# Altium footprint library DragonBoard_8074.PcbLib: 1 footprints
Each footprint in its own frame and in the unit in brackets; x right, y up, seen from the top. Pads: shape width x height; smd on the part's side, far side on the other; paste and mask are expansions set on the pad; w line width, h text height; cw(c..) or ccw(c..) is an arc to the next point about the centre after c.
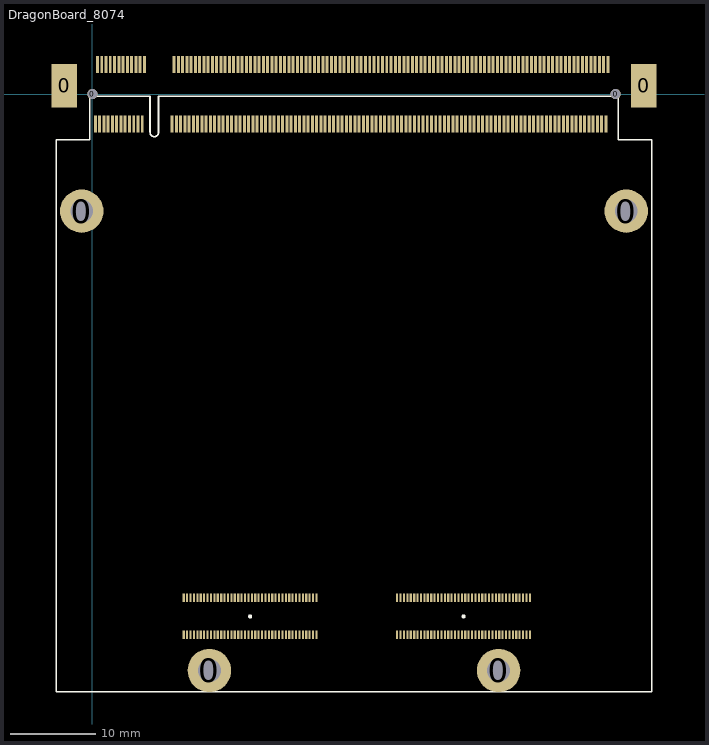
[diagram p0: the footprint, top view; thin cyan lines are the x and y axes]

## DragonBoard_8074 [mm]
pads (400):
  rect 3x5.15 smd: 0(-3.31,0.98) 0(64.81,0.98)
  round 5.1 hole 2.69: 0(-1.25,-13.75) 0(13.75,-67.75) 0(47.75,-67.75) 0(62.75,-13.75)
  round 1.2 hole 1.2: 0(0,0) 0(61.5,0)
  round 0.5 on Top Overlay: 0(18.54,-61.4) 0(43.625,-61.4)
  rect 0.35x2 smd: 1(0.36,-3.5) 2(0.6,3.5) 3(0.86,-3.5) 4(1.1,3.5) 5(1.36,-3.5) 6(1.6,3.5) 7(1.86,-3.5) 8(2.1,3.5) 9(2.36,-3.5) 10(2.6,3.5) 11(2.86,-3.5) 12(3.1,3.5) 13(3.36,-3.5) 14(3.6,3.5) 15(3.86,-3.5) 16(4.1,3.5) 17(4.36,-3.5) 18(4.6,3.5) 19(4.86,-3.5) 20(5.1,3.5) 21(5.36,-3.5) 22(5.6,3.5) 23(5.86,-3.5) 24(6.1,3.5) 25(9.36,-3.5) 26(9.6,3.5) 27(9.86,-3.5) 28(10.1,3.5) 29(10.36,-3.5) 30(10.6,3.5) 31(10.86,-3.5) 32(11.1,3.5) 33(11.36,-3.5) 34(11.6,3.5) 35(11.86,-3.5) 36(12.1,3.5) 37(12.36,-3.5) 38(12.6,3.5) 39(12.86,-3.5) 40(13.1,3.5) 41(13.36,-3.5) 42(13.6,3.5) 43(13.86,-3.5) 44(14.1,3.5) 45(14.36,-3.5) 46(14.6,3.5) 47(14.86,-3.5) 48(15.1,3.5) 49(15.36,-3.5) 50(15.6,3.5) 51(15.86,-3.5) 52(16.1,3.5) 53(16.36,-3.5) 54(16.6,3.5) 55(16.86,-3.5) 56(17.1,3.5) 57(17.36,-3.5) 58(17.6,3.5) 59(17.86,-3.5) 60(18.1,3.5) 61(18.36,-3.5) 62(18.6,3.5) 63(18.86,-3.5) 64(19.1,3.5) 65(19.36,-3.5) 66(19.6,3.5) 67(19.86,-3.5) 68(20.1,3.5) 69(20.36,-3.5) 70(20.6,3.5) 71(20.86,-3.5) 72(21.1,3.5) 73(21.36,-3.5) 74(21.6,3.5) 75(21.86,-3.5) 76(22.1,3.5) 77(22.36,-3.5) 78(22.6,3.5) 79(22.86,-3.5) 80(23.1,3.5) 81(23.36,-3.5) 82(23.6,3.5) 83(23.86,-3.5) 84(24.1,3.5) 85(24.36,-3.5) 86(24.6,3.5) 87(24.86,-3.5) 88(25.1,3.5) 89(25.36,-3.5) 90(25.6,3.5) 91(25.86,-3.5) 92(26.1,3.5) 93(26.36,-3.5) 94(26.6,3.5) 95(26.86,-3.5) 96(27.1,3.5) 97(27.36,-3.5) 98(27.6,3.5) 99(27.86,-3.5) 100(28.1,3.5) 101(28.36,-3.5) 102(28.6,3.5) 103(28.86,-3.5) 104(29.1,3.5) 105(29.36,-3.5) 106(29.6,3.5) 107(29.86,-3.5) 108(30.1,3.5) 109(30.36,-3.5) 110(30.6,3.5) 111(30.86,-3.5) 112(31.1,3.5) 113(31.36,-3.5) 114(31.6,3.5) 115(31.86,-3.5) 116(32.1,3.5) 117(32.36,-3.5) 118(32.6,3.5) 119(32.86,-3.5) 120(33.1,3.5) 121(33.36,-3.5) 122(33.6,3.5) 123(33.86,-3.5) 124(34.1,3.5) 125(34.36,-3.5) 126(34.6,3.5) 127(34.86,-3.5) 128(35.1,3.5) 129(35.36,-3.5) 130(35.6,3.5) 131(35.86,-3.5) 132(36.1,3.5) 133(36.36,-3.5) 134(36.6,3.5) 135(36.86,-3.5) 136(37.1,3.5) 137(37.36,-3.5) 138(37.6,3.5) 139(37.86,-3.5) 140(38.1,3.5) 141(38.36,-3.5) 142(38.6,3.5) 143(38.86,-3.5) 144(39.1,3.5) 145(39.36,-3.5) 146(39.6,3.5) 147(39.86,-3.5) 148(40.1,3.5) 149(40.36,-3.5) 150(40.6,3.5) 151(40.86,-3.5) 152(41.1,3.5) 153(41.36,-3.5) 154(41.6,3.5) 155(41.86,-3.5) 156(42.1,3.5) 157(42.36,-3.5) 158(42.6,3.5) 159(42.86,-3.5) 160(43.1,3.5) 161(43.36,-3.5) 162(43.6,3.5) 163(43.86,-3.5) 164(44.1,3.5) 165(44.36,-3.5) 166(44.6,3.5) 167(44.86,-3.5) 168(45.1,3.5) 169(45.36,-3.5) 170(45.6,3.5) 171(45.86,-3.5) 172(46.1,3.5) 173(46.36,-3.5) 174(46.6,3.5) 175(46.86,-3.5) 176(47.1,3.5) 177(47.36,-3.5) 178(47.6,3.5) 179(47.86,-3.5) 180(48.1,3.5) 181(48.36,-3.5) 182(48.6,3.5) 183(48.86,-3.5) 184(49.1,3.5) 185(49.36,-3.5) 186(49.6,3.5) 187(49.86,-3.5) 188(50.1,3.5) 189(50.36,-3.5) 190(50.6,3.5) 191(50.86,-3.5) 192(51.1,3.5) 193(51.36,-3.5) 194(51.6,3.5) 195(51.86,-3.5) 196(52.1,3.5) 197(52.36,-3.5) 198(52.6,3.5) 199(52.86,-3.5) 200(53.1,3.5) 201(53.36,-3.5) 202(53.6,3.5) 203(53.86,-3.5) 204(54.1,3.5) 205(54.36,-3.5) 206(54.6,3.5) 207(54.86,-3.5) 208(55.1,3.5) 209(55.36,-3.5) 210(55.6,3.5) 211(55.86,-3.5) 212(56.1,3.5) 213(56.36,-3.5) 214(56.6,3.5) 215(56.86,-3.5) 216(57.1,3.5) 217(57.36,-3.5) 218(57.6,3.5) 219(57.86,-3.5) 220(58.1,3.5) 221(58.36,-3.5) 222(58.6,3.5) 223(58.86,-3.5) 224(59.1,3.5) 225(59.36,-3.5) 226(59.6,3.5) 227(59.86,-3.5) 228(60.1,3.5) 229(60.36,-3.5) 230(60.6,3.5)
  rect 0.25x1 smd: J2_1(35.825,-63.575) J2_2(35.825,-59.225) J2_3(36.225,-63.575) J2_4(36.225,-59.225) J2_5(36.625,-63.575) J2_6(36.625,-59.225) J2_7(37.025,-63.575) J2_8(37.025,-59.225) J2_9(37.425,-63.575) J2_10(37.425,-59.225) J2_11(37.825,-63.575) J2_12(37.825,-59.225) J2_13(38.225,-63.575) J2_14(38.225,-59.225) J2_15(38.625,-63.575) J2_16(38.625,-59.225) J2_17(39.025,-63.575) J2_18(39.025,-59.225) J2_19(39.425,-63.575) J2_20(39.425,-59.225) J2_21(39.825,-63.575) J2_22(39.825,-59.225) J2_23(40.225,-63.575) J2_24(40.225,-59.225) J2_25(40.625,-63.575) J2_26(40.625,-59.225) J2_27(41.025,-63.575) J2_28(41.025,-59.225) J2_29(41.425,-63.575) J2_30(41.425,-59.225) J2_31(41.825,-63.575) J2_32(41.825,-59.225) J2_33(42.225,-63.575) J2_34(42.225,-59.225) J2_35(42.625,-63.575) J2_36(42.625,-59.225) J2_37(43.025,-63.575) J2_38(43.025,-59.225) J2_39(43.425,-63.575) J2_40(43.425,-59.225) J2_41(43.825,-63.575) J2_42(43.825,-59.225) J2_43(44.225,-63.575) J2_44(44.225,-59.225) J2_45(44.625,-63.575) J2_46(44.625,-59.225) J2_47(45.025,-63.575) J2_48(45.025,-59.225) J2_49(45.425,-63.575) J2_50(45.425,-59.225) J2_51(45.825,-63.575) J2_52(45.825,-59.225) J2_53(46.225,-63.575) J2_54(46.225,-59.225) J2_55(46.625,-63.575) J2_56(46.625,-59.225) J2_57(47.025,-63.575) J2_58(47.025,-59.225) J2_59(47.425,-63.575) J2_60(47.425,-59.225) J2_61(47.825,-63.575) J2_62(47.825,-59.225) J2_63(48.225,-63.575) J2_64(48.225,-59.225) J2_65(48.625,-63.575) J2_66(48.625,-59.225) J2_67(49.025,-63.575) J2_68(49.025,-59.225) J2_69(49.425,-63.575) J2_70(49.425,-59.225) J2_71(49.825,-63.575) J2_72(49.825,-59.225) J2_73(50.225,-63.575) J2_74(50.225,-59.225) J2_75(50.625,-63.575) J2_76(50.625,-59.225) J2_77(51.025,-63.575) J2_78(51.025,-59.225) J2_79(51.425,-63.575) J2_80(51.425,-59.225) J3_1(10.74,-63.575) J3_2(10.74,-59.225) J3_3(11.14,-63.575) J3_4(11.14,-59.225) J3_5(11.54,-63.575) J3_6(11.54,-59.225) J3_7(11.94,-63.575) J3_8(11.94,-59.225) J3_9(12.34,-63.575) J3_10(12.34,-59.225) J3_11(12.74,-63.575) J3_12(12.74,-59.225) J3_13(13.14,-63.575) J3_14(13.14,-59.225) J3_15(13.54,-63.575) J3_16(13.54,-59.225) J3_17(13.94,-63.575) J3_18(13.94,-59.225) J3_19(14.34,-63.575) J3_20(14.34,-59.225) J3_21(14.74,-63.575) J3_22(14.74,-59.225) J3_23(15.14,-63.575) J3_24(15.14,-59.225) J3_25(15.54,-63.575) J3_26(15.54,-59.225) J3_27(15.94,-63.575) J3_28(15.94,-59.225) J3_29(16.34,-63.575) J3_30(16.34,-59.225) J3_31(16.74,-63.575) J3_32(16.74,-59.225) J3_33(17.14,-63.575) J3_34(17.14,-59.225) J3_35(17.54,-63.575) J3_36(17.54,-59.225) J3_37(17.94,-63.575) J3_38(17.94,-59.225) J3_39(18.34,-63.575) J3_40(18.34,-59.225) J3_41(18.74,-63.575) J3_42(18.74,-59.225) J3_43(19.14,-63.575) J3_44(19.14,-59.225) J3_45(19.54,-63.575) J3_46(19.54,-59.225) J3_47(19.94,-63.575) J3_48(19.94,-59.225) J3_49(20.34,-63.575) J3_50(20.34,-59.225) J3_51(20.74,-63.575) J3_52(20.74,-59.225) J3_53(21.14,-63.575) J3_54(21.14,-59.225) J3_55(21.54,-63.575) J3_56(21.54,-59.225) J3_57(21.94,-63.575) J3_58(21.94,-59.225) J3_59(22.34,-63.575) J3_60(22.34,-59.225) J3_61(22.74,-63.575) J3_62(22.74,-59.225) J3_63(23.14,-63.575) J3_64(23.14,-59.225) J3_65(23.54,-63.575) J3_66(23.54,-59.225) J3_67(23.94,-63.575) J3_68(23.94,-59.225) J3_69(24.34,-63.575) J3_70(24.34,-59.225) J3_71(24.74,-63.575) J3_72(24.74,-59.225) J3_73(25.14,-63.575) J3_74(25.14,-59.225) J3_75(25.54,-63.575) J3_76(25.54,-59.225) J3_77(25.94,-63.575) J3_78(25.94,-59.225) J3_79(26.34,-63.575) J3_80(26.34,-59.225)
Top Overlay:
  lines w0.2: -4.25,-70.25 65.75,-70.25 65.75,-5.35 61.8,-5.35 61.8,-0.25 7.78,-0.25 7.78,-4.5 cw(c7.28,-4.5) 6.78,-4.5 6.78,-0.25 -0.31,-0.25 -0.31,-5.35 -4.25,-5.35 -4.25,-70.25
3D body: height -5.4, standoff -5.5, extent -4.35,-70.35 65.85,-0.15
3D body: height 5, standoff 0, extent 33.75,-65 52.5,-57.5
3D body: height 5, standoff 0, extent 8.75,-65 27.5,-57.5
3D body: height 7.1, standoff 0, extent 45.17,-70.295 50.25,-65.205
3D body: height 7.1, standoff 0, extent 11.21,-70.34 16.29,-65.25
3D body: height 7.1, standoff 0, extent 60.21,-16.25 65.29,-11.16
3D body: height 7.1, standoff 0, extent -3.75,-16.25 1.33,-11.16
3D body: height 8, standoff 0, extent -1.5,-4.25 63.25,4.25
3D body: height 6, standoff 5, extent -4.35,-70.35 65.85,-0.15